# Altium footprint library IC_SMD_DUAL.PCBLIB: 187 footprints (part 6 of 12)
Each footprint in its own frame and in the unit in brackets; x right, y up, seen from the top. Pads: shape width x height; smd on the part's side, far side on the other; paste and mask are expansions set on the pad; w line width, h text height; cw(c..) or ccw(c..) is an arc to the next point about the centre after c.
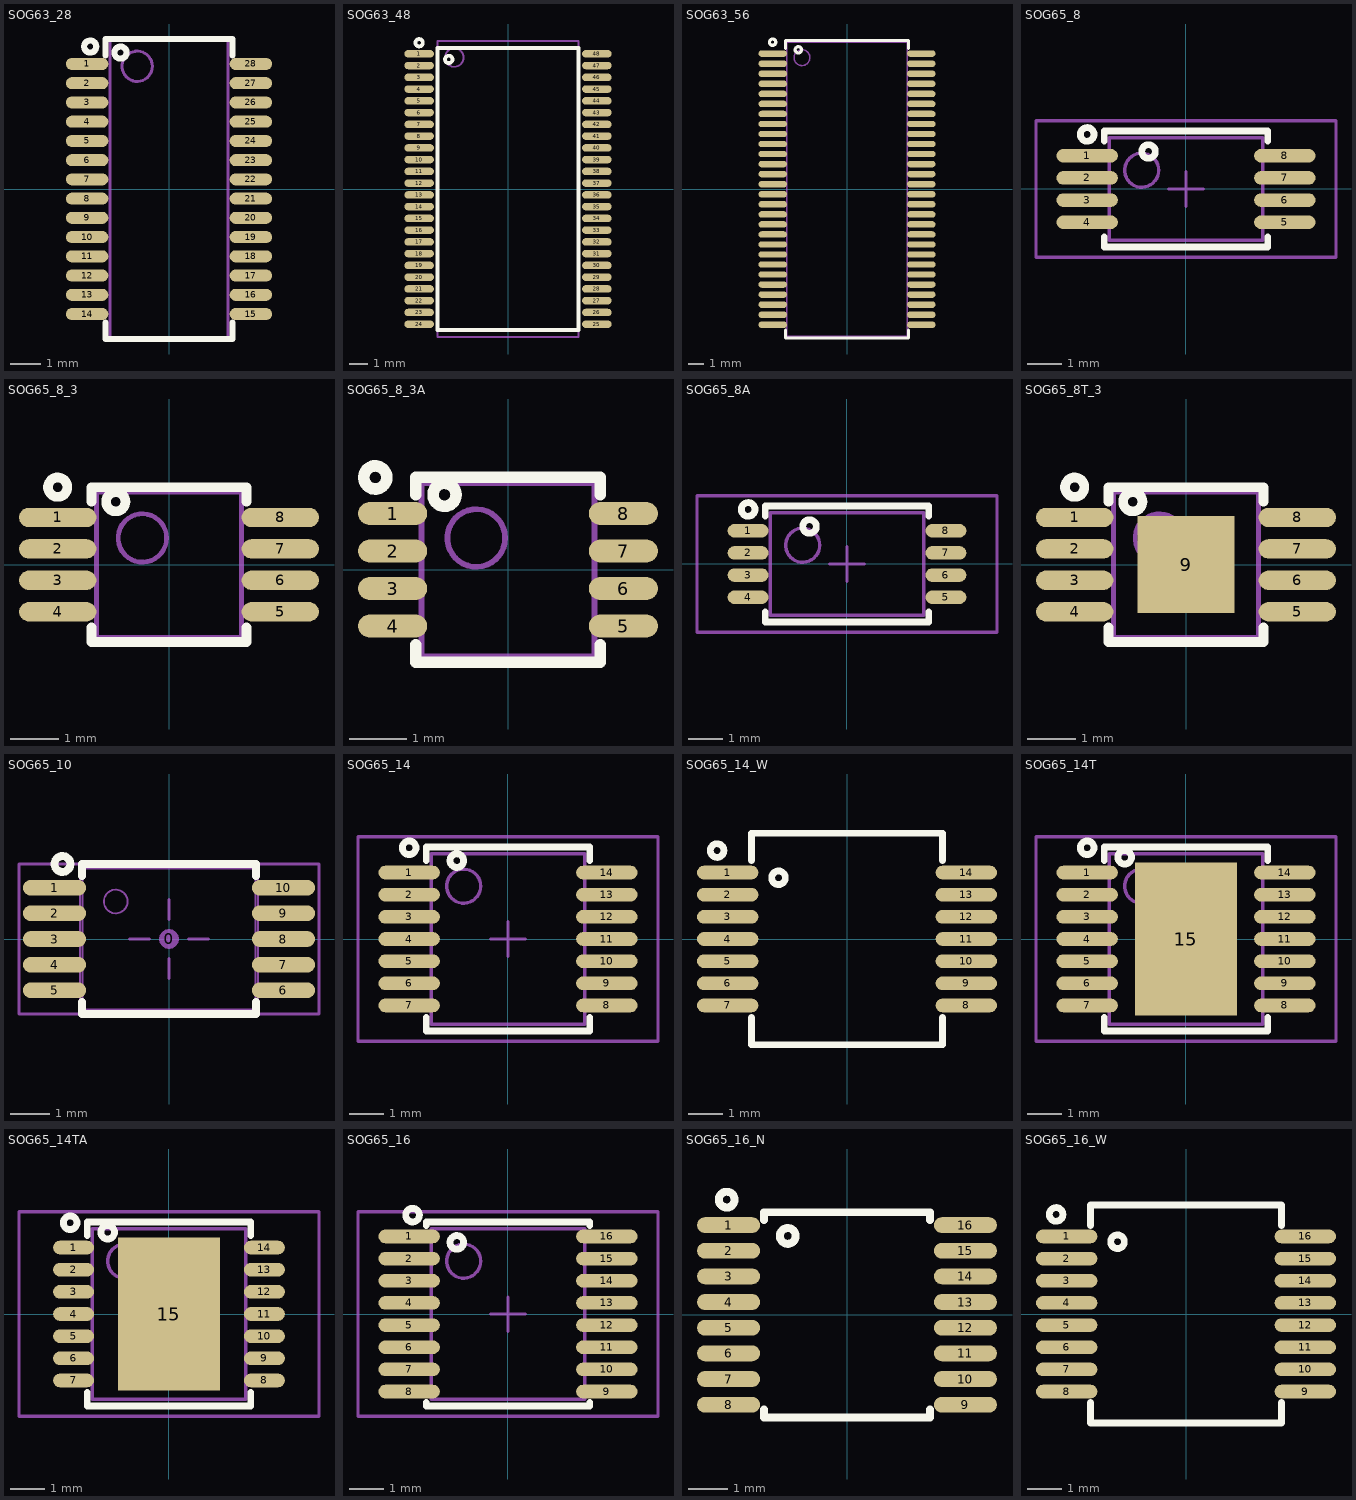
[diagram p5: the footprints below, top view; thin cyan lines are the x and y axes]

## SOG63_28 [mm] "SSOP, 28-Leads, 9.9x3.9mm, Pitch 0.635mm"
height 1.75
pads (28):
  oval 1.4x0.4 smd: 1(-2.7,4.127) 2(-2.7,3.492) 3(-2.7,2.857) 4(-2.7,2.222) 5(-2.7,1.587) 6(-2.7,0.953) 7(-2.7,0.318) 8(-2.7,-0.318) 9(-2.7,-0.953) 10(-2.7,-1.587) 11(-2.7,-2.222) 12(-2.7,-2.857) 13(-2.7,-3.492) 14(-2.7,-4.127) 15(2.7,-4.127) 16(2.7,-3.492) 17(2.7,-2.857) 18(2.7,-2.222) 19(2.7,-1.587) 20(2.7,-0.953) 21(2.7,-0.318) 22(2.7,0.318) 23(2.7,0.953) 24(2.7,1.587) 25(2.7,2.222) 26(2.7,2.857) 27(2.7,3.492) 28(2.7,4.127)
TopOverlay:
  circle w0.2: c-1.6,4.5 r0.2
  circle w0.2: c-2.6,4.7 r0.2
  lines w0.2: -2.1,-4.4 -2.1,-4.95 2.1,-4.95 2.1,-4.4 ; -2.1,4.4 -2.1,4.95 2.1,4.95 2.1,4.4
Mechanical13:
  circle w0.1: c-1.05,4.05 r0.5
  lines w0.1: -1.95,-4.95 1.95,-4.95 1.95,4.95 -1.95,4.95 -1.95,-4.95
3D body "SOG63_28.step": height 1.75, standoff 0, extent -3,-4.95 3,4.95

## SOG63_48 [mm] "SOT370-1, MO-118, SSOP48, 7.5mm width, 0.635mm pitch"
pads (48):
  oval 1.6x0.4 smd mask+0.075: 1(-4.8,7.302) 2(-4.8,6.667) 3(-4.8,6.032) 4(-4.8,5.397) 5(-4.8,4.763) 6(-4.8,4.127) 7(-4.8,3.492) 8(-4.8,2.857) 9(-4.8,2.222) 10(-4.8,1.587) 11(-4.8,0.953) 12(-4.8,0.318) 13(-4.8,-0.318) 14(-4.8,-0.953) 15(-4.8,-1.587) 16(-4.8,-2.222) 17(-4.8,-2.857) 18(-4.8,-3.492) 19(-4.8,-4.127) 20(-4.8,-4.763) 21(-4.8,-5.397) 22(-4.8,-6.032) 23(-4.8,-6.667) 24(-4.8,-7.302) 25(4.8,-7.302) 26(4.8,-6.667) 27(4.8,-6.032) 28(4.8,-5.397) 29(4.8,-4.763) 30(4.8,-4.127) 31(4.8,-3.492) 32(4.8,-2.857) 33(4.8,-2.222) 34(4.8,-1.587) 35(4.8,-0.953) 36(4.8,-0.318) 37(4.8,0.318) 38(4.8,0.953) 39(4.8,1.587) 40(4.8,2.222) 41(4.8,2.857) 42(4.8,3.492) 43(4.8,4.127) 44(4.8,4.763) 45(4.8,5.397) 46(4.8,6.032) 47(4.8,6.667) 48(4.8,7.302)
TopOverlay:
  circle w0.2: c-3.2,7 r0.2
  circle w0.2: c-4.8,7.9 r0.2
  lines w0.2: -3.81,-7.62 -3.81,7.62 3.81,7.62 3.81,-7.62 -3.81,-7.62
Mechanical13:
  circle w0.1: c-2.9,7.1 r0.5
  lines w0.1: -3.8,-8 -3.8,8 3.8,8 3.8,-8 -3.8,-8
3D body "SOG63_48-.step": height 2.8, standoff 0, extent -5.125,-8 5.125,8

## SOG63_56 [mm] "SSOP 56Lead, pitch: 0.635, 18.5x7.5x2.8mm"
height 2.8
pads (56):
  oval 1.8x0.4 smd mask+0.075: 1(-4.7,8.572) 2(-4.7,7.938) 3(-4.7,7.302) 4(-4.7,6.667) 5(-4.7,6.032) 6(-4.7,5.397) 7(-4.7,4.763) 8(-4.7,4.127) 9(-4.7,3.492) 10(-4.7,2.857) 11(-4.7,2.222) 12(-4.7,1.587) 13(-4.7,0.953) 14(-4.7,0.318) 15(-4.7,-0.318) 16(-4.7,-0.953) 17(-4.7,-1.587) 18(-4.7,-2.222) 19(-4.7,-2.857) 20(-4.7,-3.492) 21(-4.7,-4.127) 22(-4.7,-4.763) 23(-4.7,-5.397) 24(-4.7,-6.032) 25(-4.7,-6.667) 26(-4.7,-7.302) 27(-4.7,-7.938) 28(-4.7,-8.572) 29(4.7,-8.572) 30(4.7,-7.938) 31(4.7,-7.302) 32(4.7,-6.667) 33(4.7,-6.032) 34(4.7,-5.397) 35(4.7,-4.763) 36(4.7,-4.127) 37(4.7,-3.492) 38(4.7,-2.857) 39(4.7,-2.222) 40(4.7,-1.587) 41(4.7,-0.953) 42(4.7,-0.318) 43(4.7,0.318) 44(4.7,0.953) 45(4.7,1.587) 46(4.7,2.222) 47(4.7,2.857) 48(4.7,3.492) 49(4.7,4.127) 50(4.7,4.763) 51(4.7,5.397) 52(4.7,6.032) 53(4.7,6.667) 54(4.7,7.302) 55(4.7,7.938) 56(4.7,8.572)
TopOverlay:
  circle w0.2: c-3.08,8.818 r0.2
  circle w0.2: c-4.7,9.3 r0.2
  lines w0.2: -3.9,-8.9 -3.9,-9.4 3.9,-9.4 3.9,-8.9 ; -3.9,8.9 -3.9,9.4 3.9,9.4 3.9,8.9
Mechanical13:
  circle w0.1: c-2.845,8.32 r0.5
  lines w0.1: -3.8,-9.3 -3.8,9.3 3.8,9.3 3.8,-9.3 -3.8,-9.3
3D body "SOG63_561.step": height 2.6, standoff 0, extent -5.2,-9.2 5.2,9.2

## SOG65_8 [mm] "PW TSSOP (TI), MO-153 (JEDEC), 8Lead, pitch: 0.65mm, 3x4.4x1.2mm"
height 1.2
pads (8):
  oval 1.8x0.4 smd mask+0.075: 1(-2.9,0.975) 2(-2.9,0.325) 3(-2.9,-0.325) 4(-2.9,-0.975) 5(2.9,-0.975) 6(2.9,-0.325) 7(2.9,0.325) 8(2.9,0.975)
TopOverlay:
  circle w0.2: c-1.1,1.1 r0.2
  circle w0.2: c-2.9,1.6 r0.2
  lines w0.2: -2.4,-1.4 -2.4,-1.7 2.4,-1.7 2.4,-1.4 ; -2.4,1.4 -2.4,1.7 2.4,1.7 2.4,1.4
Mechanical13:
  circle w0.1: c-1.3,0.55 r0.5
  lines w0.1: -2.25,-1.5 2.25,-1.5 2.25,1.5 -2.25,1.5 -2.25,-1.5
Mechanical15:
  lines w0.1: -0.5,0 0.5,0 ; 0,-0.5 0,0.5 ; -4.4,-2 4.4,-2 4.4,2 -4.4,2 -4.4,-2
3D body "User Library-TSSOP-8.STEP": height 1.2, standoff 0, extent -3.2,-1.5 3.2,1.5

## SOG65_8_3 [mm] "MICRO8, DGK DCT (TI) VSSOP-8, pitch: 0.65mm, 3X3mm, MSOP8, RM-8, MS8, MSOP-8,  / miniSOP8, miniSO8, TSSO3X5-G8/D3.1, 8 uMAX, usop8/8uSOP, TSSOP-8, SOT505-1, MO-187AA, MO-153AA"
height 1.2
pads (8):
  oval 1.6x0.4 smd mask+0.075: 1(-2.3,0.975) 2(-2.3,0.325) 3(-2.3,-0.325) 4(-2.3,-0.975) 5(2.3,-0.975) 6(2.3,-0.325) 7(2.3,0.325) 8(2.3,0.975)
TopOverlay:
  circle w0.2: c-1.1,1.3 r0.2
  circle w0.2: c-2.3,1.6 r0.2
  lines w0.2: -1.6,-1.3 -1.6,-1.6 1.6,-1.6 1.6,-1.3 ; -1.6,1.3 -1.6,1.6 1.6,1.6 1.6,1.3
Mechanical13:
  circle w0.1: c-0.55,0.55 r0.5
  lines w0.1: -1.5,-1.5 1.5,-1.5 1.5,1.5 -1.5,1.5 -1.5,-1.5
3D body "User Library-msop-8.step": height 1.15, standoff 0, extent -2.45,-1.5 2.45,1.5

## SOG65_8_3A [mm] "MICRO8, DGK DCT (TI) VSSOP-8, pitch: 0.65mm, 3X3mm, MSOP8, RM-8, MS8, MSOP-8,  / miniSOP8, miniSO8, TSSO3X5-G8/D3.1, 8 uMAX, usop8/8uSOP, TSSOP-8, SOT505-1, MO-187AA, MO-153AA"
height 1.2
pads (8):
  oval 1.2x0.4 smd mask+0.075: 1(-2,0.975) 2(-2,0.325) 3(-2,-0.325) 4(-2,-0.975) 5(2,-0.975) 6(2,-0.325) 7(2,0.325) 8(2,0.975)
TopOverlay:
  circle w0.2: c-1.1,1.3 r0.2
  circle w0.2: c-2.3,1.6 r0.2
  lines w0.2: -1.6,-1.3 -1.6,-1.6 1.6,-1.6 1.6,-1.3 ; -1.6,1.3 -1.6,1.6 1.6,1.6 1.6,1.3
Mechanical13:
  circle w0.1: c-0.55,0.55 r0.5
  lines w0.1: -1.5,-1.5 1.5,-1.5 1.5,1.5 -1.5,1.5 -1.5,-1.5
3D body "User Library-msop-8.step": height 1.15, standoff 0, extent -2.45,-1.5 2.45,1.5

## SOG65_8A [mm] "PW TSSOP (TI), MO-153 (JEDEC), 8Lead, pitch: 0.65mm, 3x4.4x1.2mm"
height 1.2
pads (8):
  oval 1.2x0.4 smd mask+0.075: 1(-2.9,0.975) 2(-2.9,0.325) 3(-2.9,-0.325) 4(-2.9,-0.975) 5(2.9,-0.975) 6(2.9,-0.325) 7(2.9,0.325) 8(2.9,0.975)
TopOverlay:
  circle w0.2: c-2.9,1.6 r0.2
  circle w0.2: c-1.1,1.1 r0.2
  lines w0.2: -2.4,-1.4 -2.4,-1.7 2.4,-1.7 2.4,-1.4 ; -2.4,1.4 -2.4,1.7 2.4,1.7 2.4,1.4
Mechanical13:
  circle w0.1: c-1.3,0.55 r0.5
  lines w0.1: -2.25,-1.5 -2.25,1.5 2.25,1.5 2.25,-1.5 -2.25,-1.5
Mechanical15:
  lines w0.1: -0.5,0 0.5,0 ; 0,-0.5 0,0.5 ; -4.4,-2 -4.4,2 4.4,2 4.4,-2 -4.4,-2
3D body "User Library-TSSOP-8.STEP": height 1.2, standoff 0, extent -3.2,-1.5 3.2,1.5

## SOG65_8T_3 [mm] "PG-TSSOP-8-1"
height 1.2
pads (9):
  oval 1.6x0.4 smd: 1(-2.3,0.975) 2(-2.3,0.325) 3(-2.3,-0.325) 4(-2.3,-0.975) 5(2.3,-0.975) 6(2.3,-0.325) 7(2.3,0.325) 8(2.3,0.975)
  rect 2x2 smd paste-5: 9(0,0)
TopOverlay:
  circle w0.2: c-2.3,1.6 r0.2
  circle w0.2: c-1.1,1.3 r0.2
  lines w0.2: -1.6,-1.3 -1.6,-1.6 1.6,-1.6 1.6,-1.3 ; -1.6,1.3 -1.6,1.6 1.6,1.6 1.6,1.3
TopPaste:
  rectangle: -0.9,0.2 -0.2,0.9
  region: 0.9,0.9 0.2,0.9 0.2,0.2 0.9,0.2
  region: 0.9,-0.2 0.2,-0.2 0.2,-0.9 0.9,-0.9
  rectangle: -0.9,-0.9 -0.2,-0.2
Mechanical13:
  circle w0.1: c-0.55,0.55 r0.5
  lines w0.1: -1.5,-1.5 -1.5,1.5 1.5,1.5 1.5,-1.5 -1.5,-1.5
3D body "User Library-MSOP-8-1.step": height 0.92, standoff 0, extent -2.5,-1.5 2.5,1.5

## SOG65_10 [mm] "TSSOP, 10 Leads, Body 3.7x4.4mm (max), Pitch 0.65mm"
height 1.2
pads (11):
  round 0.508 on Mech15: 0(0,0)
  oval 1.6x0.4 smd paste-0.05 mask+0.07: 1(-2.9,1.3) 2(-2.9,0.65) 3(-2.9,0) 4(-2.9,-0.65) 5(-2.9,-1.3) 6(2.9,-1.3) 7(2.9,-0.65) 8(2.9,0) 9(2.9,0.65) 10(2.9,1.3)
TopOverlay:
  circle w0.2: c-2.7,1.9 r0.2
  lines w0.2: -2.2,-1.6 -2.2,-1.9 2.2,-1.9 2.2,-1.6 ; -2.2,1.6 -2.2,1.9 2.2,1.9 2.2,1.6
Mechanical13:
  circle w0.05: c-1.35,0.95 r0.3
  lines w0.05: -2.839,-1.45 -2.839,-1.15 ; -2.839,-0.8 -2.839,-0.5 ; -2.839,-0.15 -2.839,0.15 ; -2.839,0.5 -2.839,0.8 ; -2.839,1.15 -2.839,1.45 ; -2.795,-1.45 -2.795,-1.15 ; -2.795,-0.8 -2.795,-0.5 ; -2.795,-0.15 -2.795,0.15 ; -2.795,0.5 -2.795,0.8 ; -2.795,1.15 -2.795,1.45 ; -2.693,-1.45 -2.693,-1.15 ; -2.693,-0.8 -2.693,-0.5 ; -2.693,-0.15 -2.693,0.15 ; -2.693,0.5 -2.693,0.8 ; -2.693,1.15 -2.693,1.45 ; -2.5,-1.45 -2.5,-1.15 ; -2.5,-0.8 -2.5,-0.5 ; -2.5,-0.15 -2.5,0.15 ; -2.5,0.5 -2.5,0.8 ; -2.5,1.15 -2.5,1.45 ; -2.25,-1.45 -3.25,-1.45 -3.25,-1.15 -2.25,-1.15 ; -2.25,-0.8 -3.25,-0.8 -3.25,-0.5 -2.25,-0.5 ; -2.25,-0.15 -3.25,-0.15 -3.25,0.15 -2.25,0.15 ; -2.25,0.5 -3.25,0.5 -3.25,0.8 -2.25,0.8 ; -2.25,1.15 -3.25,1.15 -3.25,1.45 -2.25,1.45 ; 2.25,-1.45 3.25,-1.45 3.25,-1.15 2.25,-1.15 ; 2.25,-0.8 3.25,-0.8 3.25,-0.5 2.25,-0.5 ; 2.25,-0.15 3.25,-0.15 3.25,0.15 2.25,0.15 ; 2.25,0.5 3.25,0.5 3.25,0.8 2.25,0.8 ; 2.25,1.15 3.25,1.15 3.25,1.45 2.25,1.45 ; 2.5,-1.45 2.5,-1.15 ; 2.5,-0.8 2.5,-0.5 ; 2.5,-0.15 2.5,0.15 ; 2.5,0.5 2.5,0.8 ; 2.5,1.15 2.5,1.45 ; 2.693,-1.45 2.693,-1.15 ; 2.693,-0.8 2.693,-0.5 ; 2.693,-0.15 2.693,0.15 ; 2.693,0.5 2.693,0.8 ; 2.693,1.15 2.693,1.45 ; 2.795,-1.45 2.795,-1.15 ; 2.795,-0.8 2.795,-0.5 ; 2.795,-0.15 2.795,0.15 ; 2.795,0.5 2.795,0.8 ; 2.795,1.15 2.795,1.45 ; 2.839,-1.45 2.839,-1.15 ; 2.839,-0.8 2.839,-0.5 ; 2.839,-0.15 2.839,0.15 ; 2.839,0.5 2.839,0.8 ; 2.839,1.15 2.839,1.45 ; -2.25,-1.85 -2.25,1.85 ; -2.25,-1.85 -2.187,-1.787 ; -2.25,-1.85 2.25,-1.85 ; -2.25,1.85 2.25,1.85 ; -2.25,1.85 -2.187,1.787 ; -2.187,-1.787 -2.187,1.787 ; -2.187,-1.787 2.187,-1.787 ; -2.187,1.787 2.187,1.787 ; 2.187,-1.787 2.187,1.787 ; 2.187,-1.787 2.25,-1.85 ; 2.187,1.787 2.25,1.85 ; 2.25,-1.85 2.25,1.85
Mechanical15:
  lines w0.076: -1,0 -0.5,0 ; 0,-1 0,-0.5 ; 0,0.5 0,1 ; 0.5,0 1,0 ; -3.8,-1.9 -3.8,1.9 3.8,1.9 3.8,-1.9 -3.8,-1.9
3D body "TSSOP65P640X120-10N.STEP": height 1.2, standoff 0, extent -3.25,-1.85 3.25,1.85

## SOG65_14 [mm] "PW TSSOP (TI), MO-153-AB (JEDEC), 14Lead, pitch: 0.65mm, 5x4.4x1.2mm"
height 1.2
pads (14):
  oval 1.8x0.4 smd mask+0.075: 1(-2.9,1.95) 2(-2.9,1.3) 3(-2.9,0.65) 4(-2.9,0) 5(-2.9,-0.65) 6(-2.9,-1.3) 7(-2.9,-1.95) 8(2.9,-1.95) 9(2.9,-1.3) 10(2.9,-0.65) 11(2.9,0) 12(2.9,0.65) 13(2.9,1.3) 14(2.9,1.95)
TopOverlay:
  circle w0.2: c-2.9,2.675 r0.2
  circle w0.2: c-1.5,2.3 r0.2
  lines w0.2: -2.4,-2.3 -2.4,-2.7 2.4,-2.7 2.4,-2.3 ; -2.4,2.3 -2.4,2.7 2.4,2.7 2.4,2.3
Mechanical13:
  circle w0.1: c-1.3,1.55 r0.5
  lines w0.1: -2.25,-2.5 -2.25,2.5 2.25,2.5 2.25,-2.5 -2.25,-2.5
Mechanical15:
  lines w0.1: -0.5,0 0.5,0 ; 0,-0.5 0,0.5 ; -4.4,-3 -4.4,3 4.4,3 4.4,-3 -4.4,-3
3D body "User Library-TSSOP14-1.step": height 1.1, standoff 0, extent -3.2,-2.5 3.2,2.5

## SOG65_14_W [mm] "SSOP 5.3mm Width 0.65mm pitch, SOT337-1, SOT402-1, MO-150AB(JEDEC),"
pads (14):
  oval 1.8x0.4 smd mask+0.075: 1(-3.5,1.95) 2(-3.5,1.3) 3(-3.5,0.65) 4(-3.5,0) 5(-3.5,-0.65) 6(-3.5,-1.3) 7(-3.5,-1.95) 8(3.5,-1.95) 9(3.5,-1.3) 10(3.5,-0.65) 11(3.5,0) 12(3.5,0.65) 13(3.5,1.3) 14(3.5,1.95)
TopOverlay:
  circle w0.2: c-3.81,2.595 r0.2
  circle w0.2: c-2.01,1.795 r0.2
  lines w0.2: -2.8,-2.3 -2.8,-3.1 2.8,-3.1 2.8,-2.3 ; -2.8,2.3 -2.8,3.1 2.8,3.1 2.8,2.3
3D body "SOG65_14_W-.step": height 2, standoff 0, extent -3.9,-3.25 3.9,3.25

## SOG65_14T [mm] "TSSOP 4.4mm, PWP, MO-153-ABT , 14Lead, pitch: 0.65mm, 5x4.4x1.2mm"
height 1.2
pads (15):
  oval 1.8x0.4 smd mask+0.075: 1(-2.9,1.95) 2(-2.9,1.3) 3(-2.9,0.65) 4(-2.9,0) 5(-2.9,-0.65) 6(-2.9,-1.3) 7(-2.9,-1.95) 8(2.9,-1.95) 9(2.9,-1.3) 10(2.9,-0.65) 11(2.9,0) 12(2.9,0.65) 13(2.9,1.3) 14(2.9,1.95)
  rect 3x4.5 smd paste-5 mask+0.1: 15(0,0)
TopOverlay:
  circle w0.2: c-2.9,2.675 r0.2
  circle w0.2: c-1.8,2.4 r0.2
  lines w0.2: -2.4,-2.3 -2.4,-2.7 2.4,-2.7 2.4,-2.3 ; -2.4,2.3 -2.4,2.7 2.4,2.7 2.4,2.3
TopPaste:
  rectangle: -1.3,-2 -0.2,-0.2
  region: 1.3,-0.2 0.2,-0.2 0.2,-2 1.3,-2
  region: 1.3,2 0.2,2 0.2,0.2 1.3,0.2
  rectangle: -1.3,0.2 -0.2,2
Mechanical13:
  circle w0.1: c-1.3,1.55 r0.5
  lines w0.1: -2.25,-2.5 -2.25,2.5 2.25,2.5 2.25,-2.5 -2.25,-2.5
Mechanical15:
  lines w0.1: -0.5,0 0.5,0 ; 0,-0.5 0,0.5 ; -4.4,-3 -4.4,3 4.4,3 4.4,-3 -4.4,-3
3D body "User Library-TSSOP14-1.step": height 1.1, standoff 0, extent -3.2,-2.5 3.2,2.5

## SOG65_14TA [mm] "TSSOP 4.4mm, PWP, MO-153-ABT , 14Lead, pitch: 0.65mm, 5x4.4x1.2mm"
height 1.2
pads (15):
  oval 1.2x0.4 smd mask+0.075: 1(-2.8,1.95) 2(-2.8,1.3) 3(-2.8,0.65) 4(-2.8,0) 5(-2.8,-0.65) 6(-2.8,-1.3) 7(-2.8,-1.95) 8(2.8,-1.95) 9(2.8,-1.3) 10(2.8,-0.65) 11(2.8,0) 12(2.8,0.65) 13(2.8,1.3) 14(2.8,1.95)
  rect 3x4.5 smd paste-5 mask+0.1: 15(0,0)
TopOverlay:
  circle w0.2: c-2.9,2.675 r0.2
  circle w0.2: c-1.8,2.4 r0.2
  lines w0.2: -2.4,-2.3 -2.4,-2.7 2.4,-2.7 2.4,-2.3 ; -2.4,2.3 -2.4,2.7 2.4,2.7 2.4,2.3
TopPaste:
  rectangle: -1.3,-2 -0.2,-0.2
  region: 1.3,-0.2 0.2,-0.2 0.2,-2 1.3,-2
  region: 1.3,2 0.2,2 0.2,0.2 1.3,0.2
  rectangle: -1.3,0.2 -0.2,2
Mechanical13:
  circle w0.1: c-1.3,1.55 r0.5
  lines w0.1: -2.25,-2.5 -2.25,2.5 2.25,2.5 2.25,-2.5 -2.25,-2.5
Mechanical15:
  lines w0.1: -0.5,0 0.5,0 ; 0,-0.5 0,0.5 ; -4.4,-3 -4.4,3 4.4,3 4.4,-3 -4.4,-3
3D body "User Library-TSSOP14-1.step": height 1.1, standoff 0, extent -3.2,-2.5 3.2,2.5

## SOG65_16 [mm] "PW TSSOP (TI), MO-153-AB (JEDEC), 16Lead, pitch: 0.65mm, 5x4.4x1.2mm"
height 1.2
pads (16):
  oval 1.8x0.4 smd mask+0.075: 1(-2.9,2.275) 2(-2.9,1.625) 3(-2.9,0.975) 4(-2.9,0.325) 5(-2.9,-0.325) 6(-2.9,-0.975) 7(-2.9,-1.625) 8(-2.9,-2.275) 9(2.9,-2.275) 10(2.9,-1.625) 11(2.9,-0.975) 12(2.9,-0.325) 13(2.9,0.325) 14(2.9,0.975) 15(2.9,1.625) 16(2.9,2.275)
TopOverlay:
  circle w0.2: c-1.5,2.1 r0.2
  circle w0.2: c-2.8,2.9 r0.2
  lines w0.2: -2.4,-2.6 -2.4,-2.7 2.4,-2.7 2.4,-2.6 ; -2.4,2.6 -2.4,2.7 2.4,2.7 2.4,2.6
Mechanical13:
  circle w0.1: c-1.3,1.55 r0.5
  lines w0.1: -2.25,-2.5 2.25,-2.5 2.25,2.5 -2.25,2.5 -2.25,-2.5
Mechanical15:
  lines w0.1: -0.5,0 0.5,0 ; 0,-0.5 0,0.5 ; -4.4,-3 4.4,-3 4.4,3 -4.4,3 -4.4,-3
3D body "User Library-TSSOP-16-1.step": height 1.1, standoff 0, extent -3.2,-2.5 3.2,2.5

## SOG65_16_N [mm] "SSOP, 4mm width"
pads (16):
  oval 1.6x0.4 smd: 1(-3,2.275) 2(-3,1.625) 3(-3,0.975) 4(-3,0.325) 5(-3,-0.325) 6(-3,-0.975) 7(-3,-1.625) 8(-3,-2.275) 9(3,-2.275) 10(3,-1.625) 11(3,-0.975) 12(3,-0.325) 13(3,0.325) 14(3,0.975) 15(3,1.625) 16(3,2.275)
TopOverlay:
  circle w0.2: c-1.5,2 r0.2
  circle w0.2: c-3.048,2.92 r0.2
  lines w0.2: -2.1,-2.4 -2.1,-2.6 2.1,-2.6 2.1,-2.4 ; -2.1,2.4 -2.1,2.6 2.1,2.6 2.1,2.4
3D body "User Library-MAX_QSOP16.step": height 1.76, standoff -0.01, extent -3.01,-2.49 3.01,2.49

## SOG65_16_W [mm] "SSOP16, SOT338-1, SOT403-1, RU-16, pitch: 0.65mm, 6x5.3mm, GN16, MO-150AC"
pads (16):
  oval 1.8x0.4 smd mask+0.075: 1(-3.5,2.275) 2(-3.5,1.625) 3(-3.5,0.975) 4(-3.5,0.325) 5(-3.5,-0.325) 6(-3.5,-0.975) 7(-3.5,-1.625) 8(-3.5,-2.275) 9(3.5,-2.275) 10(3.5,-1.625) 11(3.5,-0.975) 12(3.5,-0.325) 13(3.5,0.325) 14(3.5,0.975) 15(3.5,1.625) 16(3.5,2.275)
TopOverlay:
  circle w0.2: c-2.01,2.12 r0.2
  circle w0.2: c-3.81,2.92 r0.2
  lines w0.2: -2.8,-2.6 -2.8,-3.2 2.8,-3.2 2.8,-2.6 ; -2.8,2.6 -2.8,3.2 2.8,3.2 2.8,2.6
3D body "User Library-SSOP-16.STEP": height 1.9, standoff 0, extent -3.9,-3.1 3.9,3.1